# Altium schematic symbol library Schlib.SchLib: 57 symbols (part 1 of 2)
Pins are listed as number, name and electrical type; pins without a type are passive.

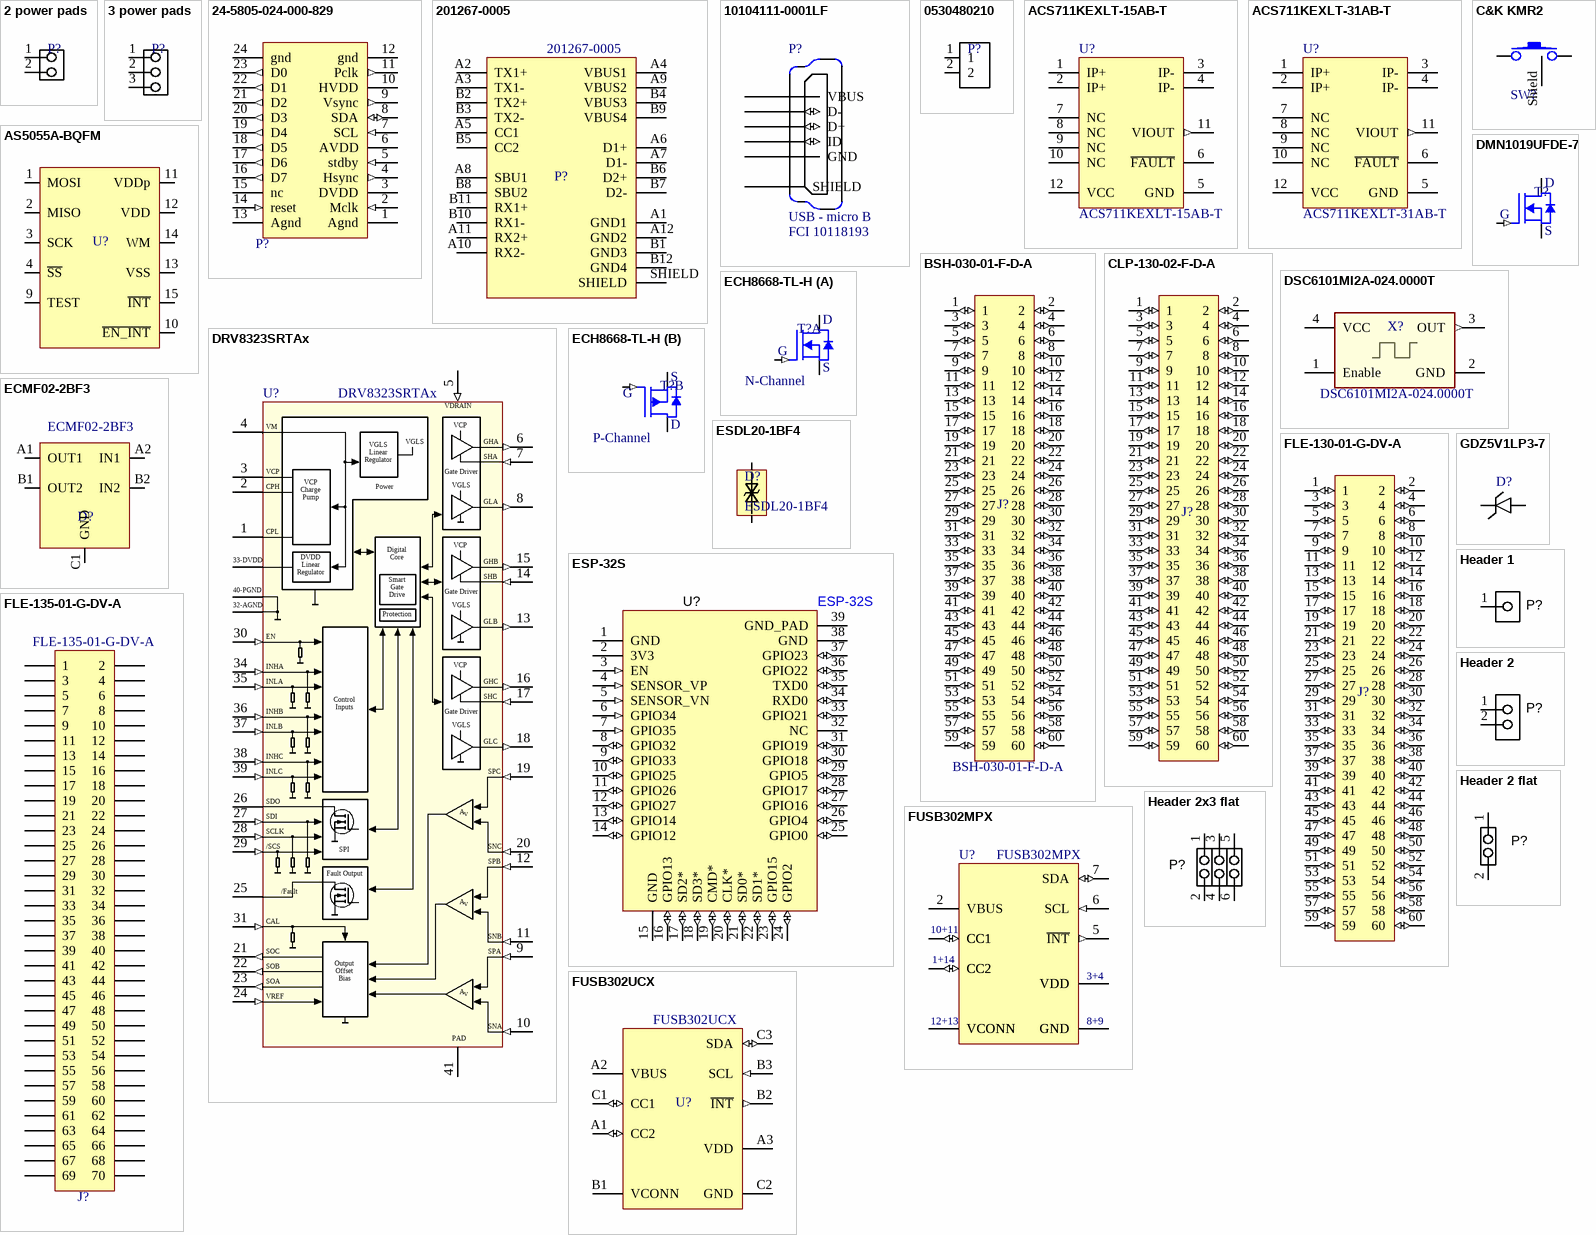
[diagram p0: symbols 2 power pads to Header 2x3 flat]

## 2 power pads
designator P?  (value not drawn)
2-Pin; Manufacturer: Generic Components; Class I: Connector; Revision: July-2002: Re-released for DXP Platform.; Publisher: Altium Limited
footprint PowerPads 2 pins
pins: 1, 2

## 3 power pads
designator P?  (value not drawn)
3-Pin; Manufacturer: Generic Components; Class I: Connector; Revision: July-2002: Re-released for DXP Platform.; Publisher: Altium Limited
footprint PowerPads 3 pins
pins: 1, 2, 3

## 24-5805-024-000-829
designator P?  (value not drawn)
RCPT 24 pins camera 24-5805-024-000-829; value: 24-5805-024-000-829
footprint Connector 24-5805-024-000-829
pins: 1 Agnd (power), 2 Mclk (in), 3 DVDD (power), 4 Hsync (out), 5 stdby (in), 6 AVDD (power), 7 SCL (in), 8 SDA (io), 9 Vsync (out), 10 HVDD (power), 11 Pclk (out), 12 gnd (power), 13 Agnd (power), 14 reset (in), 15 nc, 16 D7 (out), 17 D6 (out), 18 D5 (out), 19 D4 (out), 20 D3 (out), 21 D2 (out), 22 D1 (out), 23 D0 (out), 24 gnd (power)

## 201267-0005
designator P?  Manufacturer Part Number: 201267-0005  (hidden comment: *)
USB Shielded I/O Receptacle; Type C; Right Angle; Surface Mount; Gold over Nickel; Manufacturer: Molex; Supplier 1: Digi-Key; Stock 1: 7138; Pricing 1: 1=2.77, 10=2.531, 25=2.3876, 50=2.292, 100=2.1965, 250=2.00552, 500=1.86228 (USD); Supplier Part Number 1: WM17992CT-ND
footprint MOLEX_2012670005
pins: A1 GND1, A2 TX1+, A3 TX1-, A4 VBUS1, A5 CC1, A6 D1+, A7 D1-, A8 SBU1, A9 VBUS2, A10 RX2-, A11 RX2+, A12 GND2, B1 GND3, B2 TX2+, B3 TX2-, B4 VBUS3, B5 CC2, B6 D2+, B7 D2-, B8 SBU2, B9 VBUS4, B10 RX1-, B11 RX1+, B12 GND4, SHIELD

## 10104111-0001LF
designator P?, comment Connector Type: USB - micro B  (hidden comment: FCI 10118193)
USB MICRO TYPE B horizontal; Manufacturer: Amphenol FCI; Number of Contacts: 5; Gender: Receptacle; Specifications: USB 2.0; Number of Ports: 1; Current Rating: 1.8A per Contact; Voltage - Rated: 100VAC; Mating Cycles: 10000; Shielding: Shielded; Material Flammability Rating: UL94 V-0; Supplier 1: Digi-Key; RoHS: RoHS Compliant; Category: Connectors, Interconnects; Stock 1: 26909; Pricing 1: 1=0.79, 10=0.744, 25=0.67, 50=0.5956, 100=0.5708, 250=0.52112, 500=0.49632 (USD); Packaging: Cut Tape (CT); Part Status: Active; Mounting Type: Surface Mount, Right Angle; Mounting Feature: Horizontal; Termination: Solder; Features: Solder Retention; Ingress Protection: -; Operating Temperature: -30°C ~ 80°C; Contact Finish: Gold; Shell/Shielding Material: Steel, Stainless; Insulation Color: Gray; ComponentLink1URL: http://portal.fciconnect.com/Comergent//fci/drawing/10104111.pdf; ComponentLink1Description: http://portal.fciconnect.com/Comergent//fci/drawing/10104111.pdf; Supplier Part Number 1: 609-4053-1-ND; value: FCI 10118193; Manufacturer Part Number: FCI 10118193
footprint Receptacle microAB-10104111-0001LF
footprint Receptacle microB_smd/th (Footprint not found)
pins: 1 VBUS (power), 2 D- (io), 3 D+ (io), 4 ID (io), 5 GND (power), SHIELD (power)

## 0530480210
designator P?  (value not drawn)
CONN HEADER 2POS 1.25MM R/A TIN; Manufacturer: Molex, LLC; Manufacturer Part Number: 0530480210; Pitch - Mating: 0.049" (1.25mm); Number of Positions: 2; Number of Positions Loaded: All; Style: Board to Cable/Wire; Shrouding: Shrouded - 4 Wall; Contact Length - Post: 0.091" (2.30mm); Material Flammability Rating: UL94 V-0; Supplier 1: Digi-Key; RoHS: RoHS Compliant; Category: Connectors, Interconnects; Stock 1: 15040; Pricing 1: 1=0.39, 10=0.369, 100=0.258, 500=0.22114, 1000=0.18428, 5000=0.15795, 10000=0.14742 (USD); Packaging: Tray; Part Status: Active; Connector Type: Header; Contact Type: Male Blade; Number of Rows: 1; Row Spacing - Mating: -; Mounting Type: Through Hole, Right Angle; Termination: Solder; Fastening Type: Detent Lock; Contact Length - Mating: -; Overall Contact Length: -; Insulation Height: 0.138" (3.50mm); Contact Shape: Rectangular; Contact Finish - Mating: Tin; Contact Finish Thickness - Mating: -; Contact Finish - Post: Tin; Contact Material: Phosphor Bronze; Insulation Material: Polyamide (PA), Nylon; Features: -; Operating Temperature: -; Ingress Protection: -; Insulation Color: Natural; Current Rating: -; Voltage Rating: -; Mated Stacking Heights: -; Contact Finish Thickness - Post: -; Applications: Automotive, General Purpose, Industrial, Medical; ComponentLink1URL: https://www.molex.com/pdm_docs/sd/530480210_sd.pdf; ComponentLink1Description: https://www.molex.com/pdm_docs/sd/530480210_sd.pdf; Supplier Part Number 1: WM1742-ND
footprint 53048-0210
pins: 1 (power), 2 (power)

## ACS711KEXLT-15AB-T
designator U?
Hall Effect Linear Current Sensor with Overcurrent Fault Output for <100 V Isolation Applications, 3 to 5.5 V, -15.5 to 15.5 A IP, -40 to 125 degC, 12-Pin QFN (EX), RoHS, Tape and Reel; VCC Max: 5.5 V; IP Max: 15.5 A; VCC Min: 3 V; IP Min: -15.5 A; -3dB Bandwidth: 0.1 MHz; PackageDescription: 12-Pin Quad Flat No-Lead, Body 3 x 3 mm, Height 0.8 mm; ComponentLink1URL: http://www.allegromicro.com/; Packing: Tape and Reel; ComponentLink2URL: http://www.allegromicro.com/~/media/Files/Datasheets/ACS711-Datasheet.ashx?la=en; DatasheetVersion: Rev. 3; PartNumber: ACS711KEXLT-15AB-T; ComponentLink2Description: Datasheet; ComponentLink3URL: http://www.allegromicro.com/~/media/Files/Datasheets/ACS711-Datasheet.ashx?la=en; RoHS: TRUE; ComponentLink1Description: Manufacturer URL; ComponentLink3Description: Package Specification; Temperature Max: 125 degC; Mounting Technology: Surface Mount; Temperature Min: -40 degC
footprint 12-PowerWFQFN
pins: 1 IP+ (power) "Terminals for current being sensed; fused internally", 2 IP+ (power) "Terminals for current being sensed; fused internally", 3 IP- (power) "Terminals for current being sensed; fused internally", 4 IP- (power) "Terminals for current being sensed; fused internally", 5 GND (power) "Signal ground terminal", 6 ~{FAULT} (oc) "Overcurrent fault; active low", 7 NC "No connection; connect to GND for optimal ESD performance.", 8 NC "No connection; connect to GND for optimal ESD performance.", 9 NC "No connection; connect to GND for optimal ESD performance.", 10 NC "No connection; connect to GND for optimal ESD performance.", 11 VIOUT (out) "Analog output signal", 12 VCC (power) "Device power supply terminal"

## ACS711KEXLT-31AB-T
designator U?
Hall Effect Linear Current Sensor with Overcurrent Fault Output for <100 V Isolation Applications, 3 to 5.5 V, -31 to 31 A IP, -40 to 125 degC, 12-Pin QFN (EX), RoHS, Tape and Reel; VCC Max: 5.5 V; IP Max: 31A; VCC Min: 3 V; IP Min: -31 A; -3dB Bandwidth: 0.1 MHz; PackageDescription: 12-Pin Quad Flat No-Lead, Body 3 x 3 mm, Height 0.8 mm; ComponentLink1URL: http://www.allegromicro.com/; Packing: Tape and Reel; ComponentLink2URL: http://www.allegromicro.com/~/media/Files/Datasheets/ACS711-Datasheet.ashx?la=en; DatasheetVersion: Rev. 4; PartNumber: ACS711KEXLT-31AB-T; ComponentLink2Description: Datasheet; ComponentLink3URL: http://www.allegromicro.com/~/media/Files/Datasheets/ACS711-Datasheet.ashx?la=en; RoHS: TRUE; ComponentLink1Description: Manufacturer URL; ComponentLink3Description: Package Specification; Temperature Max: 125 degC; Mounting Technology: Surface Mount; Temperature Min: -40 degC
footprint 12-PowerWFQFN
pins: 1 IP+ (power) "Terminals for current being sensed; fused internally", 2 IP+ (power) "Terminals for current being sensed; fused internally", 3 IP- (power) "Terminals for current being sensed; fused internally", 4 IP- (power) "Terminals for current being sensed; fused internally", 5 GND (power) "Signal ground terminal", 6 ~{FAULT} (oc) "Overcurrent fault; active low", 7 NC "No connection; connect to GND for optimal ESD performance.", 8 NC "No connection; connect to GND for optimal ESD performance.", 9 NC "No connection; connect to GND for optimal ESD performance.", 10 NC "No connection; connect to GND for optimal ESD performance.", 11 VIOUT (out) "Analog output signal", 12 VCC (power) "Device power supply terminal"

## AS5055A-BQFM
designator U?  (value not drawn)
IC ENCODER ROTARY 12BIT 16QFN; Manufacturer: ams; Statut de la pièce: Actif; Pour la mesure: Angle; Technologie: Effet Hall; Angle de rotation - Électrique, mécanique: 0° ~ 360°, Modes continue; Sortie: SPI; Type d’actionneur: Aimant externe, non inclus; Linéarité: ±1,41°; Alimentation en tension: 3 V ~ 3,6 V; Type de montage: Montage en surface; Style de terminaison: Languette CMS (SMT); Température d’utilisation: -40°C ~ 85°C; Supplier 1: Digi-Key; RoHS: RoHS Compliant; Category: Capteurs, transducteurs; Stock 1: 6192; Pricing 1: 1=6.54, 10=5.885, 25=5.362, 100=4.8388, 250=4.44644 (EUR); Plage linéaire: -; Signal de sortie: -; Résistance (Ohms): -; Tolérance de résistance: -; ComponentLink1URL: http://ams.com/eng/content/download/552323/1541717/300455; ComponentLink1Description: http://ams.com/eng/content/download/552323/1541717/300455; Supplier 2: RSComponents
footprint QFN4X4-16 - EPAD unconnected (Quad Flat No Lead, Plastic; 16 Terminals; Body 4 x 4 mm; Pitch 0.65 mm)
pins: 1 MOSI, 2 MISO, 3 SCK, 4 ~{SS}, 9 TEST, 10 ~{EN_INT}, 11 VDDp, 12 VDD, 13 VSS, 14 WM, 15 ~{INT}

## BSH-030-01-F-D-A
designator J?  Manufacturer Part Number: BSH-030-01-F-D-A  (hidden comment: *)
CONN RCPT 60POS 0.5MM SMD; Manufacturer: Samtec Inc.; Connector Type: Socket, Center Strip Contacts; Number of Positions: 60; Pitch: 0.020" (0.50mm); Mated Stacking Heights: 5mm; Supplier 1: Digi-Key; RoHS: RoHS Compliant; Category: Connectors, Interconnects; Stock 1: 637; Pricing 1: 1=5.89, 10=5.376, 25=5.12, 50=4.608, 100=4.096, 250=3.712, 500=3.456, 1000=3.264, 2500=3.136 (USD); Packaging: Tube; Part Status: Active; Mounting Type: Surface Mount; Features: Board Guide; Contact Finish: Gold; Contact Finish Thickness: 3.00µin (0.076µm); Height Above Board: 0.128" (3.25mm); ComponentLink1URL: http://suddendocs.samtec.com/prints/bsh-xxx-01-x-d-xx-xx-mkt.pdf; ComponentLink1Description: http://suddendocs.samtec.com/prints/bsh-xxx-01-x-d-xx-xx-mkt.pdf; Supplier Part Number 1: SAM8749-ND
footprint BSH-030-F-D-A
pins: 1 (io), 2 (io), 3 (io), 4 (io), 5 (io), 6 (io), 7 (io), 8 (io), 9 (io), 10 (io), 11 (io), 12 (io), 13 (io), 14 (io), 15 (io), 16 (io), 17 (io), 18 (io), 19 (io), 20 (io), 21 (io), 22 (io), 23 (io), 24 (io), 25 (io), 26 (io), 27 (io), 28 (io), 29 (io), 30 (io), 31 (io), 32 (io), 33 (io), 34 (io), 35 (io), 36 (io), 37 (io), 38 (io), 39 (io), 40 (io), 41 (io), 42 (io), 43 (io), 44 (io), 45 (io), 46 (io), 47 (io), 48 (io), 49 (io), 50 (io), 51 (io), 52 (io), 53 (io), 54 (io), 55 (io), 56 (io), 57 (io), 58 (io), 59 (io), 60 (io)

## C&K KMR2
designator SW?, comment button  (value not drawn)
KMR221GLFS; Manufacturer: Tyco; Manufacturer Nr: 7-188275-6; Preference: 1; Currentie: CHF; Quant_1: 10; Quant_2: 900; Circuit: SPST-NO; Switch Function: Off-Mom; Contact Rating @ Voltage: 0.05A @ 32VDC; Actuator Type: Standard; Actuator Height off PCB, from Pins: 1.90mm; Actuator Orientation: Top Actuated; Outline: 4.60mm x 2.80mm; Illumination: Non-Illuminated; Operating Force: 200gf; Switch Travel: 0.25mm; Mechanical Life: 200,000 Cycles; Footprint Acort: ToDefine; ComponentLink1Description: Datasheet; ComponentLink1URL: http://ecommas.tycoelectronics.com/commerce/DocumentDelivery/DDEController?Action=showdoc&DocId=Customer+Drawing%7F188275%7FR%7Fpdf%7FEnglish%7FC_188275_R.pdf; Supplier: Farnell; Supplier Nr: 1056234; ComponentLink2Description: Farnell link; ComponentLink2URL: http://fr.farnell.com/jsp/displayProduct.jsp?sku=1056234; ROHS: True; Type: SMD; Orientation: Vertical; DateLastUpdate: 2007-12-04 / 09:15:57; Price_1: 1,1; Price_2: 0,924; Supplier 1: Digi-Key; Manufacturer Part Number: KMR221GLFS; Category: Switches; Stock 1: 20549; Pricing 1: 1=0.51, 10=0.493, 25=0.484, 50=0.4656, 100=0.4017, 250=0.3652, 500=0.34694, 1000=0.2739 (USD); Packaging: Cut Tape (CT); Mounting Type: Surface Mount; Termination Style: Gull Wing; Illumination Voltage (Nominal): -; Illumination Type, Color: -; Ingress Protection: -; Features: Grounding Pin; Actuator Material: -; Operating Temperature: -40°C ~ 85°C; ComponentLink3URL: http://www.ck-components.com/index.php?module=media&action=Display&cmpref=14414&lang=en&width=&height=&format=&alt=; ComponentLink3Description: http://www.ck-components.com/index.php?module=media&action=Display&cmpref=14414&lang=en&width=&height=&format=&alt=; Supplier Part Number 1: 401-1427-1-ND
footprint C&K_KMR2 (KMR2 Series  Micro-Miniature Tact Switch)
pins: 1, 2, Shield

## CLP-130-02-F-D-A
designator J?  (value not drawn)
.050" X .050; Manufacturer: Samtec Inc.; Manufacturer Part Number: CLP-130-02-F-D-A; Connector Type: Receptacle; Style: Board to Board; Number of Positions: 60; Number of Positions Loaded: All; Pitch - Mating: 0.050" (1.27mm); Material Flammability Rating: UL94 V-0; Current Rating: 3.3A per Contact; Voltage Rating: 240VAC, 330VDC; Supplier 1: Digi-Key; RoHS: RoHS Compliant; Category: Connectors, Interconnects; Stock 1: 0; Pricing 1: 1=7.54 (USD); Packaging: Tube; Part Status: Active; Contact Type: Female Socket; Row Spacing - Mating: 0.050" (1.27mm); Mounting Type: Surface Mount; Termination: Solder; Fastening Type: Push-Pull; Contact Finish - Mating: Gold; Contact Finish Thickness - Mating: 3.00µin (0.076µm); Insulation Color: Black; Insulation Height: 0.084" (2.14mm); Contact Length - Post: -; Operating Temperature: -55°C ~ 125°C; Contact Finish - Post: Tin; Mated Stacking Heights: -; Ingress Protection: -; Features: Board Guide; Applications: -; Insulation Material: Liquid Crystal Polymer (LCP); Contact Shape: Square; Contact Material: Phosphor Bronze; Contact Finish Thickness - Post: -; ComponentLink1URL: http://suddendocs.samtec.com/prints/clp-1xx-xx-xxx-d-xx-mkt.pdf; ComponentLink1Description: http://suddendocs.samtec.com/prints/clp-1xx-xx-xxx-d-xx-mkt.pdf; Supplier Part Number 1: CLP-130-02-F-D-A-ND
footprint CLP-130-02-F-D-A
pins: 1 (io), 2 (io), 3 (io), 4 (io), 5 (io), 6 (io), 7 (io), 8 (io), 9 (io), 10 (io), 11 (io), 12 (io), 13 (io), 14 (io), 15 (io), 16 (io), 17 (io), 18 (io), 19 (io), 20 (io), 21 (io), 22 (io), 23 (io), 24 (io), 25 (io), 26 (io), 27 (io), 28 (io), 29 (io), 30 (io), 31 (io), 32 (io), 33 (io), 34 (io), 35 (io), 36 (io), 37 (io), 38 (io), 39 (io), 40 (io), 41 (io), 42 (io), 43 (io), 44 (io), 45 (io), 46 (io), 47 (io), 48 (io), 49 (io), 50 (io), 51 (io), 52 (io), 53 (io), 54 (io), 55 (io), 56 (io), 57 (io), 58 (io), 59 (io), 60 (io)

## DMN1019UFDE-7
designator T?  (value not drawn)
MOSFET N CH 12V 11A U-DFN2020-6E; Manufacturer: Diodes Incorporated; Manufacturer Part Number: DMN1019UFDE-7; FET Type: N-Channel; Current - Continuous Drain (Id) @ 25°C: 11A (Ta); Drive Voltage (Max Rds On,  Min Rds On): 1.2V, 4.5V; Rds On (Max) @ Id, Vgs: 10 mOhm @ 9.7A, 4.5V; Vgs(th) (Max) @ Id: 800mV @ 250µA; Vgs (Max): ±8V; Power Dissipation (Max): 690mW (Ta); Supplier 1: Digi-Key; RoHS: RoHS Compliant; Category: Discrete Semiconductor Products; Stock 1: 492; Pricing 1: 1=0.55, 10=0.464, 100=0.3482, 500=0.25538, 1000=0.19734 (USD); Packaging: Cut Tape (CT); Part Status: Active; Technology: MOSFET (Metal Oxide); FET Feature: -; Operating Temperature: -55°C ~ 150°C (TJ); Mounting Type: Surface Mount; Supplier Device Package: U-DFN2020-6 (Type E); Package / Case: 6-UDFN Exposed Pad; ComponentLink1URL: https://www.diodes.com/assets/Datasheets/DMN1019UFDE.pdf; ComponentLink1Description: https://www.diodes.com/assets/Datasheets/DMN1019UFDE.pdf; Supplier Part Number 1: DMN1019UFDE-7DICT-ND
footprint U-DFN2020-6
pins: 1 D, 2 G (in), 3 S

## DRV8323SRTAx
designator U?
6 to 60-V Three-Phase Smart Gate Driver, 3 current sense amplifiers, SPI interface, 6 x 6 × 0.75 mm QFN; Manufacturer: Texas Instruments; PartNumber: DRV8323HRTAR; RefDes: RefDes; Type: DEV; Value: Value
footprint RTA0040B
footprint RTA0040B_NV
pins: 1 CPL, 2 CPH, 3 VCP (power), 4 VM (power), 5 VDRAIN (in), 6 GHA (out), 7 SHA (in), 8 GLA (out), 9 SPA (in), 10 SNA (in), 11 SNB (in), 12 SPB (in), 13 GLB (out), 14 SHB (in), 15 GHB (out), 16 GHC (out), 17 SHC (in), 18 GLC (out), 19 SPC (in), 20 SNC (in), 21 SOC (out), 22 SOB (out), 23 SOA (out), 24 VREF (in), 25 FAULT_N (oc), 26 MODE_SDO, 27 IDRIVE_SDI (in), 28 VDS_SCLK (in), 29 GAIN_SCS_N (in), 30 ENABLE (in), 31 CAL (in), 32 AGND (power), 33 DVDD (power), 34 INHA (in), 35 INLA (in), 36 INHB (in), 37 INLB (in), 38 INHC (in), 39 INLC (in), 40 PGND (power), 41 PAD (power)
text: VGLS; / VGLS / Linear / Regulator; Gate Driver; Power; / VCP / Charge / Pump; 33-DVDD; DVDD / Linear / Regulator; 40-PGND; Smart / Gate / Drive; 32-AGND; Protection; / Digital / Core; EN; / Control / Inputs; SDO; A; SDI; V; SCLK; /SCS; / SPI; /Fault; Fault Output; / Output / Offset / Bias

## DSC6101MI2A-024.0000T
designator X?  Manufacturer Part Number: DSC6101MI2A-024.0000T  (hidden comment: *)
24MHz LVCMOS MEMS (Silicon) Oscillator  1.71 V ~ 3.63 V 3mA Enable/Disable; Manufacturer: Microchip; Frequency Stability: 25ppm; Supplier 1: Digi-Key; Stock 1: 47; Pricing 1: 1=1.06, 50=0.9464 (USD); Frequency: 24MHz; Max Supply Current: 3mA; Ratings: AEC-Q100; Supplier Part Number 1: DSC6101MI2A-024.0000TCT-ND
footprint Oscillator 2x1.6mm VLGA
pins: 1 Enable, 2 GND (power), 3 OUT (out), 4 VCC (power)

## ECH8668-TL-H
designator T?  (value not drawn)
MOSFET N/P-CH 20V 7.5A/5A ECH8; Manufacturer: ON Semiconductor; Manufacturer Part Number: ECH8668-TL-H; FET Type: N and P-Channel; FET Feature: Logic Level Gate; Current - Continuous Drain (Id) @ 25°C: 7.5A, 5A; Rds On (Max) @ Id, Vgs: 17 mOhm @ 4A, 4.5V; Gate Charge (Qg) (Max) @ Vgs: 10.8nC @ 4.5V; Input Capacitance (Ciss) (Max) @ Vds: 1060pF @ 10V; Power - Max: 1.5W; Supplier 1: Digi-Key; RoHS: RoHS Compliant; Category: Discrete Semiconductor Products; Stock 1: 3111; Pricing 1: 1=0.93, 10=0.811, 100=0.6259, 500=0.46362, 1000=0.37089 (USD); Packaging: Cut Tape (CT); Part Status: Active; Drain to Source Voltage (Vdss): 20V; Vgs(th) (Max) @ Id: -; Operating Temperature: 150°C (TJ); Mounting Type: Surface Mount; Package / Case: 8-SMD, Flat Lead; Supplier Device Package: 8-ECH; ComponentLink1URL: http://www.onsemi.com/pub/Collateral/ECH8668-D.PDF; ComponentLink1Description: http://www.onsemi.com/pub/Collateral/ECH8668-D.PDF; Supplier Part Number 1: ECH8668-TL-HOSCT-ND
footprint 8-SMD Flat lead
part A pins: 1 S, 2 G (in), 6 D
part B pins: 3 S, 4 G (in), 5 D
part A text: N-Channel
part B text: P-Channel

## ECMF02-2BF3
designator D?  Manufacturer Part Number: ECMF02-2BF3  (hidden comment: *)
IC ESD FILTER COM MODE 5FLIPCHIP; Manufacturer: STMicroelectronics; Number of Lines: 2; Frequency: 2.2GHz; DC Resistance (DCR): 3R; Supplier 1: Digi-Key; Stock 1: 11040; Pricing 1: 1=0.65, 10=0.56, 100=0.4182, 500=0.32858, 1000=0.2539 (USD); Mount: Surface Mount; Case/Package: SMD/SMT; Min Operating Temperature: -40°C; Max Operating Temperature: 85°C; Package Quantity: 5000; Packaging: Tape and Reel; Termination: Flat; Radiation Hardening: No; Lead Free: Lead Free; ComponentLink1URL: http://www.st.com/st-web-ui/static/active/en/resource/technical/document/data_brief/DM00047758.pdf; ComponentLink1Description: http://www.st.com/st-web-ui/static/active/en/resource/technical/document/data_brief/DM00047758.pdf; ComponentLink2URL: http://www.st.com/content/ccc/resource/technical/document/data_brief/b5/64/4d/9e/10/b2/49/ce/DM00047758.pdf/files/DM00047758.pdf/jcr:content/translations/en.DM00047758.pdf; ComponentLink2Description: http://www.st.com/content/ccc/resource/technical/document/data_brief/b5/64/4d/9e/10/b2/49/ce/DM00047758.pdf/files/DM00047758.pdf/jcr:content/translations/en.DM00047758.pdf; Supplier Part Number 1: 497-12953-1-ND
footprint ECMF02-2BF3 (USB DP-DM line protection)
pins: A1 OUT1, A2 IN1, B1 OUT2, B2 IN2, C1 GND

## ESDL20-1BF4
designator D?
footprint 0201 USB protection diodes (USB PROTECTION ST)
pins: 1, 2

## ESP-32S
designator U?
Wi-Fi BT BLE MCU Module; MANUFACTURER: TEXAS INSTRUMENTS; POPULATE: Y; CONSIGNED: Y; VALUE: ESP-32S
footprint ESP-32S
pins: 1 GND (power), 2 3V3 (power), 3 EN (in), 4 SENSOR_VP (in), 5 SENSOR_VN (in), 6 GPIO34 (in), 7 GPIO35 (in), 8 GPIO32 (io), 9 GPIO33 (io), 10 GPIO25 (io), 11 GPIO26 (io), 12 GPIO27 (io), 13 GPIO14 (io), 14 GPIO12 (io), 15 GND (power), 16 GPIO13 (io), 17 SD2* (io), 18 SD3* (io), 19 CMD* (io), 20 CLK* (io), 21 SD0* (io), 22 SD1* (io), 23 GPIO15 (io), 24 GPIO2 (io), 25 GPIO0 (io), 26 GPIO4 (io), 27 GPIO16 (io), 28 GPIO17 (io), 29 GPIO5 (io), 30 GPIO18 (io), 31 GPIO19 (io), 32 NC, 33 GPIO21 (io), 34 RXD0 (io), 35 TXD0 (io), 36 GPIO22 (io), 37 GPIO23 (io), 38 GND (power), 39 GND_PAD (power)

## FLE-130-01-G-DV-A
designator J?  (value not drawn)
.050 MICRO STRIPS; Manufacturer: Samtec Inc.; Manufacturer Part Number: FLE-130-01-G-DV-A; Connector Type: Receptacle; Style: Board to Board or Cable; Number of Positions: 60; Number of Positions Loaded: All; Pitch - Mating: 0.050" (1.27mm); Current Rating: 2A per Contact; Supplier 1: Digi-Key; RoHS: RoHS Compliant; Category: Connectors, Interconnects; Stock 1: 179; Pricing 1: 1=7.89, 10=7.203, 100=5.488, 500=4.6305, 1000=4.37325 (USD); Packaging: Tube; Part Status: Active; Contact Type: Female Socket; Row Spacing - Mating: 0.050" (1.27mm); Mounting Type: Surface Mount; Termination: Solder; Fastening Type: Push-Pull; Contact Finish - Mating: Gold; Contact Finish Thickness - Mating: 10.0µin (0.25µm); Insulation Color: Black; Insulation Height: 0.172" (4.37mm); Contact Length - Post: -; Operating Temperature: -55°C ~ 125°C; Material Flammability Rating: -; Contact Finish - Post: Gold; Mated Stacking Heights: -; Ingress Protection: -; Features: Board Guide; Voltage Rating: -; Applications: -; Insulation Material: Liquid Crystal Polymer (LCP); Contact Shape: Square; Contact Material: Phosphor Bronze; Contact Finish Thickness - Post: 3.00µin (0.076µm); ComponentLink1URL: http://suddendocs.samtec.com/prints/fle-1xx-xx-xx-dv-x-mkt.pdf; ComponentLink1Description: http://suddendocs.samtec.com/prints/fle-1xx-xx-xx-dv-x-mkt.pdf; Supplier Part Number 1: SAM10493-ND
footprint FLE-130-01-G-DV-A
pins: 1 (io), 2 (io), 3 (io), 4 (io), 5 (io), 6 (io), 7 (io), 8 (io), 9 (io), 10 (io), 11 (io), 12 (io), 13 (io), 14 (io), 15 (io), 16 (io), 17 (io), 18 (io), 19 (io), 20 (io), 21 (io), 22 (io), 23 (io), 24 (io), 25 (io), 26 (io), 27 (io), 28 (io), 29 (io), 30 (io), 31 (io), 32 (io), 33 (io), 34 (io), 35 (io), 36 (io), 37 (io), 38 (io), 39 (io), 40 (io), 41 (io), 42 (io), 43 (io), 44 (io), 45 (io), 46 (io), 47 (io), 48 (io), 49 (io), 50 (io), 51 (io), 52 (io), 53 (io), 54 (io), 55 (io), 56 (io), 57 (io), 58 (io), 59 (io), 60 (io)

## FLE-135-01-G-DV-A
designator J?
.050 MICRO STRIPS; Manufacturer: Samtec Inc.; Manufacturer Part Number: FLE-130-01-G-DV-A; Connector Type: Receptacle; Style: Board to Board or Cable; Number of Positions: 60; Number of Positions Loaded: All; Pitch - Mating: 0.050" (1.27mm); Current Rating: 2A per Contact; Supplier 1: Digi-Key; RoHS: RoHS Compliant; Category: Connectors, Interconnects; Stock 1: 179; Pricing 1: 1=7.89, 10=7.203, 100=5.488, 500=4.6305, 1000=4.37325 (USD); Packaging: Tube; Part Status: Active; Contact Type: Female Socket; Row Spacing - Mating: 0.050" (1.27mm); Mounting Type: Surface Mount; Termination: Solder; Fastening Type: Push-Pull; Contact Finish - Mating: Gold; Contact Finish Thickness - Mating: 10.0µin (0.25µm); Insulation Color: Black; Insulation Height: 0.172" (4.37mm); Contact Length - Post: -; Operating Temperature: -55°C ~ 125°C; Material Flammability Rating: -; Contact Finish - Post: Gold; Mated Stacking Heights: -; Ingress Protection: -; Features: Board Guide; Voltage Rating: -; Applications: -; Insulation Material: Liquid Crystal Polymer (LCP); Contact Shape: Square; Contact Material: Phosphor Bronze; Contact Finish Thickness - Post: 3.00µin (0.076µm); ComponentLink1URL: http://suddendocs.samtec.com/prints/fle-1xx-xx-xx-dv-x-mkt.pdf; ComponentLink1Description: http://suddendocs.samtec.com/prints/fle-1xx-xx-xx-dv-x-mkt.pdf; Supplier Part Number 1: SAM10493-ND
footprint FLE-135-01-G-DV-A
pins: 1, 2, 3, 4, 5, 6, 7, 8, 9, 10, 11, 12, 13, 14, 15, 16, 17, 18, 19, 20, 21, 22, 23, 24, 25, 26, 27, 28, 29, 30, 31, 32, 33, 34, 35, 36, 37, 38, 39, 40, 41, 42, 43, 44, 45, 46, 47, 48, 49, 50, 51, 52, 53, 54, 55, 56, 57, 58, 59, 60, 61, 62, 63, 64, 65, 66, 67, 68, 69, 70

## FUSB302MPX
designator U?  Manufacturer Part Number: FUSB302MPX  (hidden comment: *)
USB Type-C Port Controller 9-Pin MLP T/R; Manufacturer: ON Semiconductor / Fairchild; Operating Supply Current: 25uA; Supplier 1: Digi-Key; Stock 1: 0; Mount: Surface Mount; Number of Pins: 14; Contact Plating: Copper,Silver,Tin; Min Operating Temperature: -40°C; Max Operating Temperature: 85°C; Packaging: Tape and Reel; Interface: USB; Lead Free: Lead Free; Supplier Part Number 1: FUSB302MPXTR-ND
footprint PQFN50P250X250X60_HS-15L (PQFN, 14-Leads, Body 2.50x2.50mm, Pitch 0.50mm, Thermal Pad 1.45x1.45mm, IPC High Density)
pins: 1 CC2 (io), 2 VBUS (power), 3 VDD (power), 4 VDD (power), 5 ~{INT} (out), 6 SCL (in), 7 SDA (io), 8 GND (power), 9 GND (power), 10 CC1 (io), 11 CC1 (io), 12 VCONN (power), 13 VCONN (power), 14 CC2 (io)
text: 10+11; 1+14; 3+4; 12+13; 8+9

## FUSB302UCX
designator U?  Manufacturer Part Number: FUSB302UCX  (hidden comment: *)
USB Type-C Port Controller 9-Pin WLCSP T/R; Manufacturer: ON Semiconductor / Fairchild; Operating Supply Current: 25uA; Supplier 1: Digi-Key; Stock 1: 0; Mount: Surface Mount; Number of Pins: 9; Weight: 0.0373333g; Contact Plating: Copper,Silver,Tin; Min Operating Temperature: -40°C; Max Operating Temperature: 85°C; Packaging: Tape and Reel; Interface: USB; Lead Free: Lead Free; Supplier Part Number 1: FUSB302UCXCT-ND
footprint WLCSP9
pins: A1 CC2 (io), A2 VBUS (power), A3 VDD (power), B1 VCONN (power), B2 ~{INT} (out), B3 SCL (in), C1 CC1 (io), C2 GND (power), C3 SDA (io)

## GDZ5V1LP3-7
designator D?  (value not drawn)
DIODE ZENER 5.1V 250MW 2DFN; Manufacturer: Diodes; Manufacturer Part Number: GDZ5V1LP3-7; Tolerance: 5%; Max Reverse Leakage Current: 200nA; Element Configuration: Single; Supplier 1: Digi-Key; Stock 1: 50190; Pricing 1: 1=0.37, 10=0.303, 100=0.1607, 500=0.1057, 1000=0.07188 (USD); Mount: Surface Mount; Case/Package: DFN; Number of Pins: 2; Min Operating Temperature: -55°C; Max Operating Temperature: 150°C; Packaging: Tape and Reel; Max Power Dissipation: 250mW; Package Quantity: 10000; Zener Voltage: 5.1V; Zener Current: 200nA; Voltage Tolerance: 5%; Peak Reverse Current: 200nA; Power Rating: 250mW; Length: 0.62mm; Height: 0.3mm; Width: 0.32mm; Radiation Hardening: No; REACH SVHC: No SVHC; ComponentLink1URL: https://www.diodes.com/assets/Datasheets/GDZxVxLP3.pdf; ComponentLink1Description: https://www.diodes.com/assets/Datasheets/GDZxVxLP3.pdf; Supplier Part Number 1: GDZ5V1LP3-7DICT-ND
footprint 0201 diode (for 0201 mcsemi diode)
footprint 0201 diode - Wide (for 0201 mcsemi diode)
pins: 1 C, 2 C

## Header 1
designator P?  (value not drawn)
LatestRevisionDate: 17-Jul-2002; LatestRevisionNote: Re-released for DXP Platform.; Publisher: Altium Limited
footprint HEADER1x1-2.54
pins: 1

## Header 2
designator P?  (value not drawn)
boot 413; LatestRevisionDate: 17-Jul-2002; LatestRevisionNote: Re-released for DXP Platform.; Publisher: Altium Limited
footprint HEADER1x2-2.54
pins: 1, 2

## Header 2 flat
designator P?  (value not drawn)
LatestRevisionDate: 17-Jul-2002; LatestRevisionNote: Re-released for DXP Platform.; Publisher: Altium Limited
footprint HEADER1x2-2.54
pins: 1, 2

## Header 2x3 flat
designator P?  (value not drawn)
LatestRevisionDate: 17-Jul-2002; LatestRevisionNote: Re-released for DXP Platform.; Publisher: Altium Limited
footprint HEADER3x2-2.54
pins: 1, 2, 3, 4, 5, 6

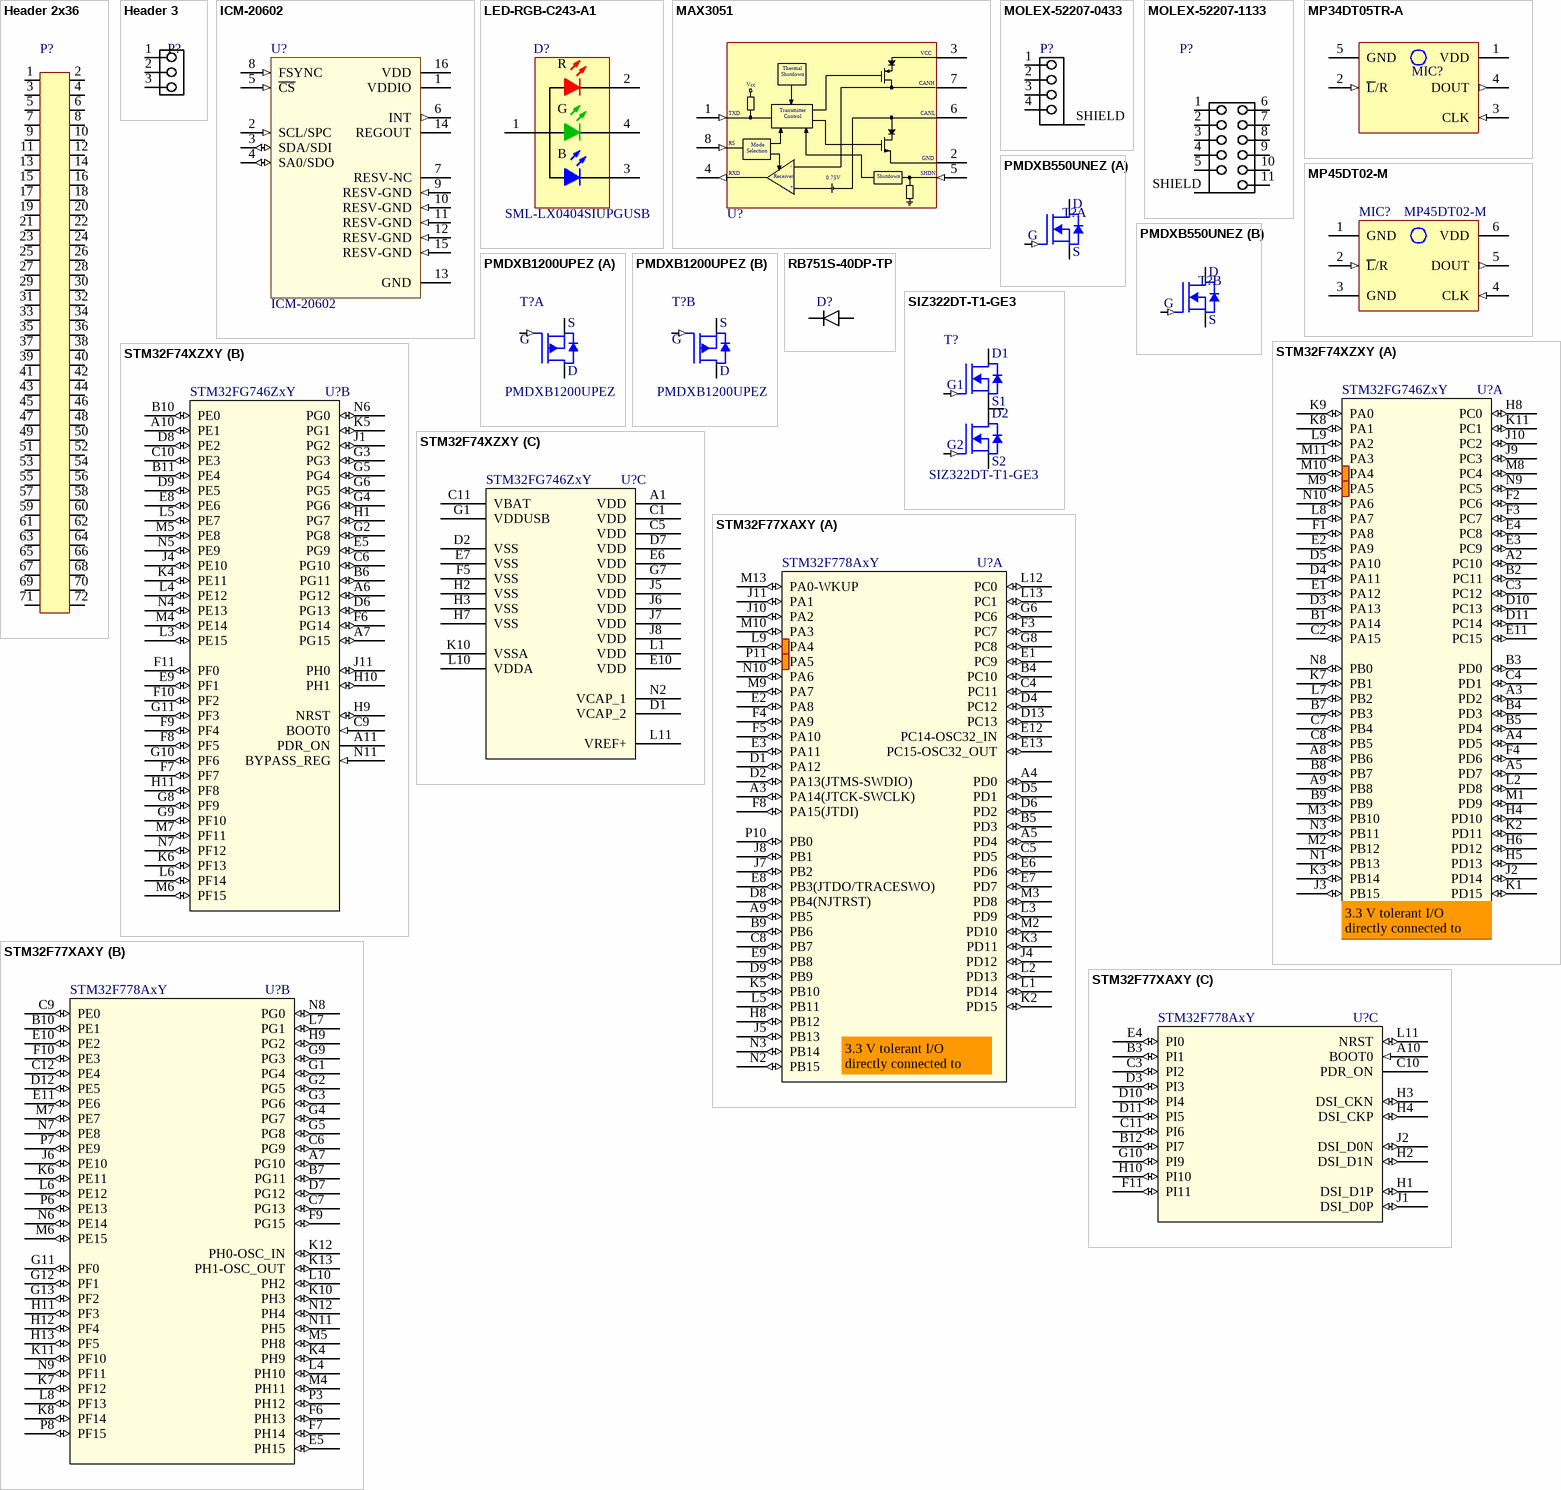
[diagram p1: symbols Header 2x36 to STM32F77XAXY]

## Header 2x36
designator P?  (value not drawn)
footprint HEADER2x36-2.54 (Connector; Header; 50 Positions)
pins: 1, 2, 3, 4, 5, 6, 7, 8, 9, 10, 11, 12, 13, 14, 15, 16, 17, 18, 19, 20, 21, 22, 23, 24, 25, 26, 27, 28, 29, 30, 31, 32, 33, 34, 35, 36, 37, 38, 39, 40, 41, 42, 43, 44, 45, 46, 47, 48, 49, 50, 51 50, 52 51, 53 51, 54 52, 55 52, 56 53, 57 53, 58 54, 59 54, 60 55, 61 55, 62 56, 63 56, 64 57, 65 57, 66 58, 67 58, 68 59, 69 59, 70 60, 71 60, 72 61

## Header 3
designator P?  (value not drawn)
Header, 3-Pin; Manufacturer: Generic Components; Class I: Connector; Revision: July-2002: Re-released for DXP Platform.; Publisher: Altium Limited
footprint HEADER1X3-2.54
pins: 1, 2, 3

## ICM-20602
designator U?
IMU ACCEL/GYRO/TEMP I2C/SPI LGA; Manufacturer: TDK InvenSense; MF: TDK-InvenSense; Sensor Type: Accelerometer, Gyroscope, Temperature, 6 Axis; Output Type: I²C, SPI; Digi-Key_Purchase_URL: https://www.digikey.ch/product-detail/en/tdk-invensense/ICM-20602/1428-1060-1-ND/5872875?utm_source=snapeda&utm_medium=aggregator&utm_campaign=symbol; SnapEDA_Link: https://www.snapeda.com/parts/ICM-20602/TDK-InvenSense/view-part/?ref=snap; Package: PQFN-16 TDK-InvenSense; Digi-Key_Part_Number: 1428-1060-1-ND; Value: *; Supplier 1: Digi-Key; Manufacturer Part Number: ICM-20602; RoHS: RoHS Compliant; Category: Sensors, Transducers; Stock 1: 12892; Pricing 1: 1=5.72, 5=5.05, 10=4.46, 25=3.6184, 50=3.1978, 100=3.1136, 500=2.60866, 1000=2.44035 (USD); Part Status: Active; Operating Temperature: -40°C ~ 85°C (TA); ComponentLink1URL: http://www.invensense.com/wp-content/uploads/2016/10/DS-000176-ICM-20602-v1.0.pdf; ComponentLink1Description: http://www.invensense.com/wp-content/uploads/2016/10/DS-000176-ICM-20602-v1.0.pdf; MP: ICM-20602; Supplier Part Number 1: 1428-1060-1-ND
footprint PQFN50P300X300X80-16N
pins: 1 VDDIO (power) "Digital I/O supply voltage", 2 SCL/SPC (in) "I2C serial clock (SCL); SPI serial clock (SPC)", 3 SDA/SDI (io) "I2C serial data (SDA); SPI serial data input (SDI)", 4 SA0/SDO (io) "I2C slave address LSB (SA0); SPI serial data output (SDO)", 5 ~{CS} (in) "Chip select (0 = SPI mode; 1 = I2C mode)", 6 INT (out) "Interrupt digital output (totem pole or open-drain)", 7 RESV-NC "Reserved. Do not connect", 8 FSYNC (in) "Synchronization digital input (optional). Connect to GND if unused", 9 RESV-GND (in) "Reserved. Connect to GND", 10 RESV-GND (in) "Reserved. Connect to GND", 11 RESV-GND (in) "Reserved. Connect to GND", 12 RESV-GND (in) "Reserved. Connect to GND", 13 GND (power) "Connect to GND", 14 REGOUT "Regulator filter capacitor connection", 15 RESV-GND (in) "Reserved. Connect to GND", 16 VDD (power) "Power Supply"

## LED-RGB-C243-A1
designator D?, comment SML-LX0404SIUPGUSB
QuasarBrite LED RGB (Full color 0404 SMD LED), 3x 2mA; Manufacturer: Lumex; Preference: 1; Currentie: CHF; Size: 0404; Footprint Acort: ToDefine; ComponentLink1URL: http://www.lumex.com/en/products/detail/leds7/surface_mount4/0404_package/; ComponentLink1Description: Manufacturer link; Supplier 1: Mouser; Supplier Part Number 1: 696-LX0404SIUPGUSB; ComponentLink2Description: Supplier link; ComponentLink2URL: http://www.mouser.ch/ProductDetail/Lumex/SML-LX0404SIUPGUSB/?qs=%2fha2pyFaduhVJD5ZRhDg%2ft7CXH9HmwqzW0VFa3tCuDCfVLKu7L8ofw8YssAqq7i9; Manufacturer Nr: SML-LX0404SIUPGUSB; ROHS: True; DateLastUpdate: 2015-06-26 / 09:49:20
footprint LUMEX_SML-LX0404SIUPGUSB
signal-integrity model Guessed Model (IC Model Details Guessed by Setup Helper)
pins: 1 AC, 2 RC, 3 BC, 4 GC
text: R; G; B

## MAX3051
designator U?, comment MAX3051EKA-T  (value not drawn)
+3.3V, 1Mbps, Low-Supply-Current CAN Transceiver; Manufacturer: Maxim; Preference: 1; Currentie: CHF; Size: SOT23-8; Footprint Acort: ToDefine; Manufacturer Nr: MAX3051EKA-T; ROHS: True; DateLastUpdate: 2012-06-17 / 01:26:47; Supplier 1: Digi-Key; Supplier Part Number 1: MAX3051EKA+TCT-ND
footprint SOT65P3-8
pins: 1 TXD (in) "Transmit Data Input. TXD is a CMOS/TTL-compatible input from a CAN controller. TXD has an  internal 75kO pullup resistor.", 2 GND (power) "Ground", 3 VCC (power) "Supply Voltage. Bypass VCC to GND with a 0.1µF capacitor.", 4 RXD (out) "Receive Data Output. RXD is a CMOS/TTL-compatible output.", 5 SHDN (in) "Shutdown Input, CMOS/TTL-Compatible. Drive SHDN high to put the MAX3051 in shutdown.  SHDN has an internal 75kO pulldown resistor to GND.", 6 CANL "CAN Bus Line Low", 7 CANH "CAN Bus Line High", 8 RS (in) "Mode-Select Input. Drive RS low or connect to GND for high-speed operation. Connect a resistor  between RS and GND to control output slope. Drive RS high to put into standby mode (see the  Mode Selection section)."
text: Thermal; Shutdown; Vcc; Transmitter; Control; Mode; Selection; -; Receiver; 0.75V; +

## MOLEX-52207-0433
designator P?
footprint Molex 52207-0433
pins: 1, 2, 3, 4, SHIELD

## MOLEX-52207-1133
designator P?
footprint Molex 52207-1133
pins: 1, 2, 3, 4, 5, 6, 7, 8, 9, 10, 11, SHIELD

## MP34DT05TR-A
designator MIC?  (value not drawn)
MEMS AUD MIC SENSOR OMNI 4HCLGA; Manufacturer: STMicroelectronics; Manufacturer Part Number: MP34DT05TR-A; Output Type: Digital, PDM; Direction: Omnidirectional; Sensitivity: -26dB ±3dB @ 94dB SPL; S/N Ratio: 64dB; Port Location: Top; Shape: Rectangular; Supplier 1: Digi-Key; RoHS: Request Inventory Verification; Category: Audio Products; Stock 1: 3088; Pricing 1: 1=1.41, 10=1.117, 100=0.8855, 500=0.7535, 1000=0.704 (USD); Packaging: Cut Tape (CT); Part Status: Active; Type: MEMS (Silicon); Ratings: -; Termination: Solder Pads; Height (Max): 0.043" (1.10mm); ComponentLink1URL: http://www.st.com/content/ccc/resource/technical/document/datasheet/group3/c7/90/d3/f6/b7/e7/40/c8/DM00415595/files/DM00415595.pdf/jcr:content/translations/en.DM00415595.pdf; ComponentLink1Description: http://www.st.com/content/ccc/resource/technical/document/datasheet/group3/c7/90/d3/f6/b7/e7/40/c8/DM00415595/files/DM00415595.pdf/jcr:content/translations/en.DM00415595.pdf; Supplier Part Number 1: 497-17809-1-ND
footprint MIC-PACK_MP34DT05-A(Primary)
pins: 1 VDD (power), 2 ~{L}/R (in), 3 CLK (in), 4 DOUT (out), 5 GND (power)

## MP45DT02-M
designator MIC?
MEMS Omnidirectional Digital Microphone; Value: MP45DT02-M
footprint HLGA-6L (LGA 6-Pins, Body 3.8x4.8mm (max), Pitch 1.65mm)
pins: 1 GND (power), 2 ~{L}/R (in), 3 GND (power), 4 CLK (in), 5 DOUT (out), 6 VDD (power)

## PMDXB550UNEZ
designator T?  (value not drawn)
DUAL N-CHANNEL 30V; Manufacturer: NXP Semiconductors; Manufacturer Part Number: PMDXB550UNEZ; Continuous Drain Current (ID): 590mA; Max Power Dissipation: 285mW; Rds On Max: 670mR; Input Capacitance: 30.3pF; FET Type: 2 N-Channel; Supplier 1: Digi-Key; Stock 1: 5582; Pricing 1: 1=0.48, 10=0.379, 100=0.2601, 500=0.17838, 1000=0.13379 (USD); Mount: Surface Mount; Min Operating Temperature: -55°C; Max Operating Temperature: 150°C; Drain to Source Voltage (Vdss): 30V; Packaging: Tape and Reel; Supplier Part Number 1: 1727-2277-1-ND
footprint DFN1010B-6
part A pins: 1 S, 2 G (in), 6 D
part B pins: 3 D, 4 S, 5 G (in)

## PMDXB1200UPEZ
designator T?  Manufacturer Part Number: PMDXB1200UPEZ  (hidden comment: *)
DUAL P-CHANNEL 30V; Manufacturer: NXP Semiconductors; Continuous Drain Current (ID): 410mA; Max Power Dissipation: 285mW; Rds On Max: 1.4R; Input Capacitance: 43.2pF; Supplier 1: Digikey; Stock 1: 13268; Pricing 1: 1=0.48, 10=0.379, 100=0.2601, 500=0.17838, 1000=0.13379 (USD); Mount: Surface Mount; Min Operating Temperature: -55°C; Max Operating Temperature: 150°C; Drain to Source Voltage (Vdss): 30V; Packaging: Tape and Reel
footprint DFN1010B-6
part A pins: 1 S, 2 G (in), 6 D
part B pins: 3 D, 4 S, 5 G (in)

## RB751S-40DP-TP
designator D?  (value not drawn)
Schottky Diodes & Rectifiers 203 Package Schottky Diodes; Manufacturer: MCC; Manufacturer Part Number: RB751S-40DP-TP; Reverse Voltage (DC): 28V; Average Rectified Current: 30mA; Element Configuration: Single; Forward Current: 200mA; Max Repetitive Reverse Voltage (Vrrm): 40V; Peak Reverse Current: 500nA; Max Power Dissipation: 100mW; Supplier 1: Digi-Key; Stock 1: 104704; Pricing 1: 1=0.3, 10=0.27, 100=0.1514, 500=0.08112, 1000=0.05516 (USD); Mount: Surface Mount; Case/Package: 0201; Case Code (Metric): 0603; Case Code (Imperial): 0201; Max Operating Temperature: 125°C; Packaging: Tape and Reel; Termination: SMD/SMT; Max Forward Surge Current (Ifsm): 200mA; Package Quantity: 10000; Max Reverse Voltage (DC): 40V; Length: 0.67mm; Height: 0.34mm; Width: 0.37mm; Supplier Part Number 1: RB751S-40DP-TPMSCT-ND
footprint 0201 diode (for 0201 mcsemi diode)
footprint 0201 diode - Wide (for 0201 mcsemi diode)
pins: 1 C, 2 C

## SIZ322DT-T1-GE3
designator T?  Manufacturer Part Number: SIZ322DT-T1-GE3  (hidden comment: *)
Manufacturer: Vishay Siliconix; Supplier 1: Digi-Key; Stock 1: 0; Pricing 1: 3000=0.37036 (USD); Supplier Part Number 1: SIZ322DT-T1-GE3TR-ND
footprint PowerPair 3x3
pins: 1 G1 (in), 2 D1, 3 D1, 4 D1, 5 S2, 6 S2, 7 S2, 8 G2 (in), 9 S1/D2, 10 D1
text: S1; D2

## STM32F74XZXY
designator U?, comment STM32FG746ZxY
Imported; Manufacturer_Part_Number: stm32f74xzxy; Vendor: STMicroelectronics; C: Copyright (C) 2016 Accelerated Designs. All rights reserved; Copyright: Copyright (C) 2016 Accelerated Designs. All rights reserved; RefDes: RefDes; Type: DEV; Value: Value
footprint WLCSP-143
part A pins: A2 PC10 (io), A3 PD2 (io), A4 PD5 (io), A5 PD7 (io), A8 PB6 (io), A9 PB8 (io), B1 PA14 (io), B2 PC11 (io), B3 PD0 (io), B4 PD3 (io), B5 PD4 (io), B7 PB3 (io), B8 PB7 (io), B9 PB9 (io), C2 PA15 (io), C3 PC12 (io), C4 PD1 (io), C7 PB4 (io), C8 PB5 (io), D3 PA13 (io), D4 PA11 (io), D5 PA10 (io), D10 PC13 (io), D11 PC14 (io), E1 PA12 (io), E2 PA9 (io), E3 PC9 (io), E4 PC8 (io), E11 PC15 (io), F1 PA8 (io), F2 PC6 (io), F3 PC7 (io), F4 PD6 (io), H4 PD10 (io), H5 PD13 (io), H6 PD12 (io), H8 PC0 (io), J2 PD14 (io), J3 PB15 (io), J9 PC3 (io), J10 PC2 (io), K1 PD15 (io), K2 PD11 (io), K3 PB14 (io), K7 PB1 (io), K8 PA1 (io), K9 PA0 (io), K11 PC1 (io), L2 PD8 (io), L7 PB2 (io), L8 PA7 (io), L9 PA2 (io), M1 PD9 (io), M2 PB12 (io), M3 PB10 (io), M8 PC4 (io), M9 PA5 (io), M10 PA4 (io), M11 PA3 (io), N1 PB13 (io), N3 PB11 (io), N8 PB0 (io), N9 PC5 (io), N10 PA6 (io)
part B pins: A6 PG12 (io), A7 PG15 (io), A10 PE1 (io), A11 PDR_ON, B6 PG11 (io), B10 PE0 (io), B11 PE4 (io), C6 PG10 (io), C9 BOOT0 (in), C10 PE3 (io), D6 PG13 (io), D8 PE2 (io), D9 PE5 (io), E5 PG9 (io), E8 PE6 (io), E9 PF1 (io), F6 PG14 (io), F7 PF7 (io), F8 PF5 (io), F9 PF4 (io), F10 PF2 (io), F11 PF0 (io), G2 PG8 (io), G3 PG3 (io), G4 PG6 (io), G5 PG4 (io), G6 PG5 (io), G8 PF9 (io), G9 PF10 (io), G10 PF6 (io), G11 PF3 (io), H1 PG7 (io), H9 NRST (io), H10 PH1 (io), H11 PF8 (io), J1 PG2 (io), J4 PE10 (io), J11 PH0 (io), K4 PE11 (io), K5 PG1 (io), K6 PF13 (io), L3 PE15 (io), L4 PE12 (io), L5 PE7 (io), L6 PF14 (io), M4 PE14 (io), M5 PE8 (io), M6 PF15 (io), M7 PF11 (io), N4 PE13 (io), N5 PE9 (io), N6 PG0 (io), N7 PF12 (io), N11 BYPASS_REG (in)
part C pins: A1 VDD (power), C1 VDD (power), C5 VDD (power), C11 VBAT (power), D1 VCAP_2 (power), D2 VSS (power), D7 VDD (power), E6 VDD (power), E7 VSS (power), E10 VDD (power), F5 VSS (power), G1 VDDUSB (power), G7 VDD (power), H2 VSS (power), H3 VSS (power), H7 VSS (power), J5 VDD (power), J6 VDD (power), J7 VDD (power), J8 VDD (power), K10 VSSA (power), L1 VDD (power), L10 VDDA (power), L11 VREF+ (power), N2 VCAP_1 (power)
part A text: 3.3 V tolerant I/O directly connected to ADC

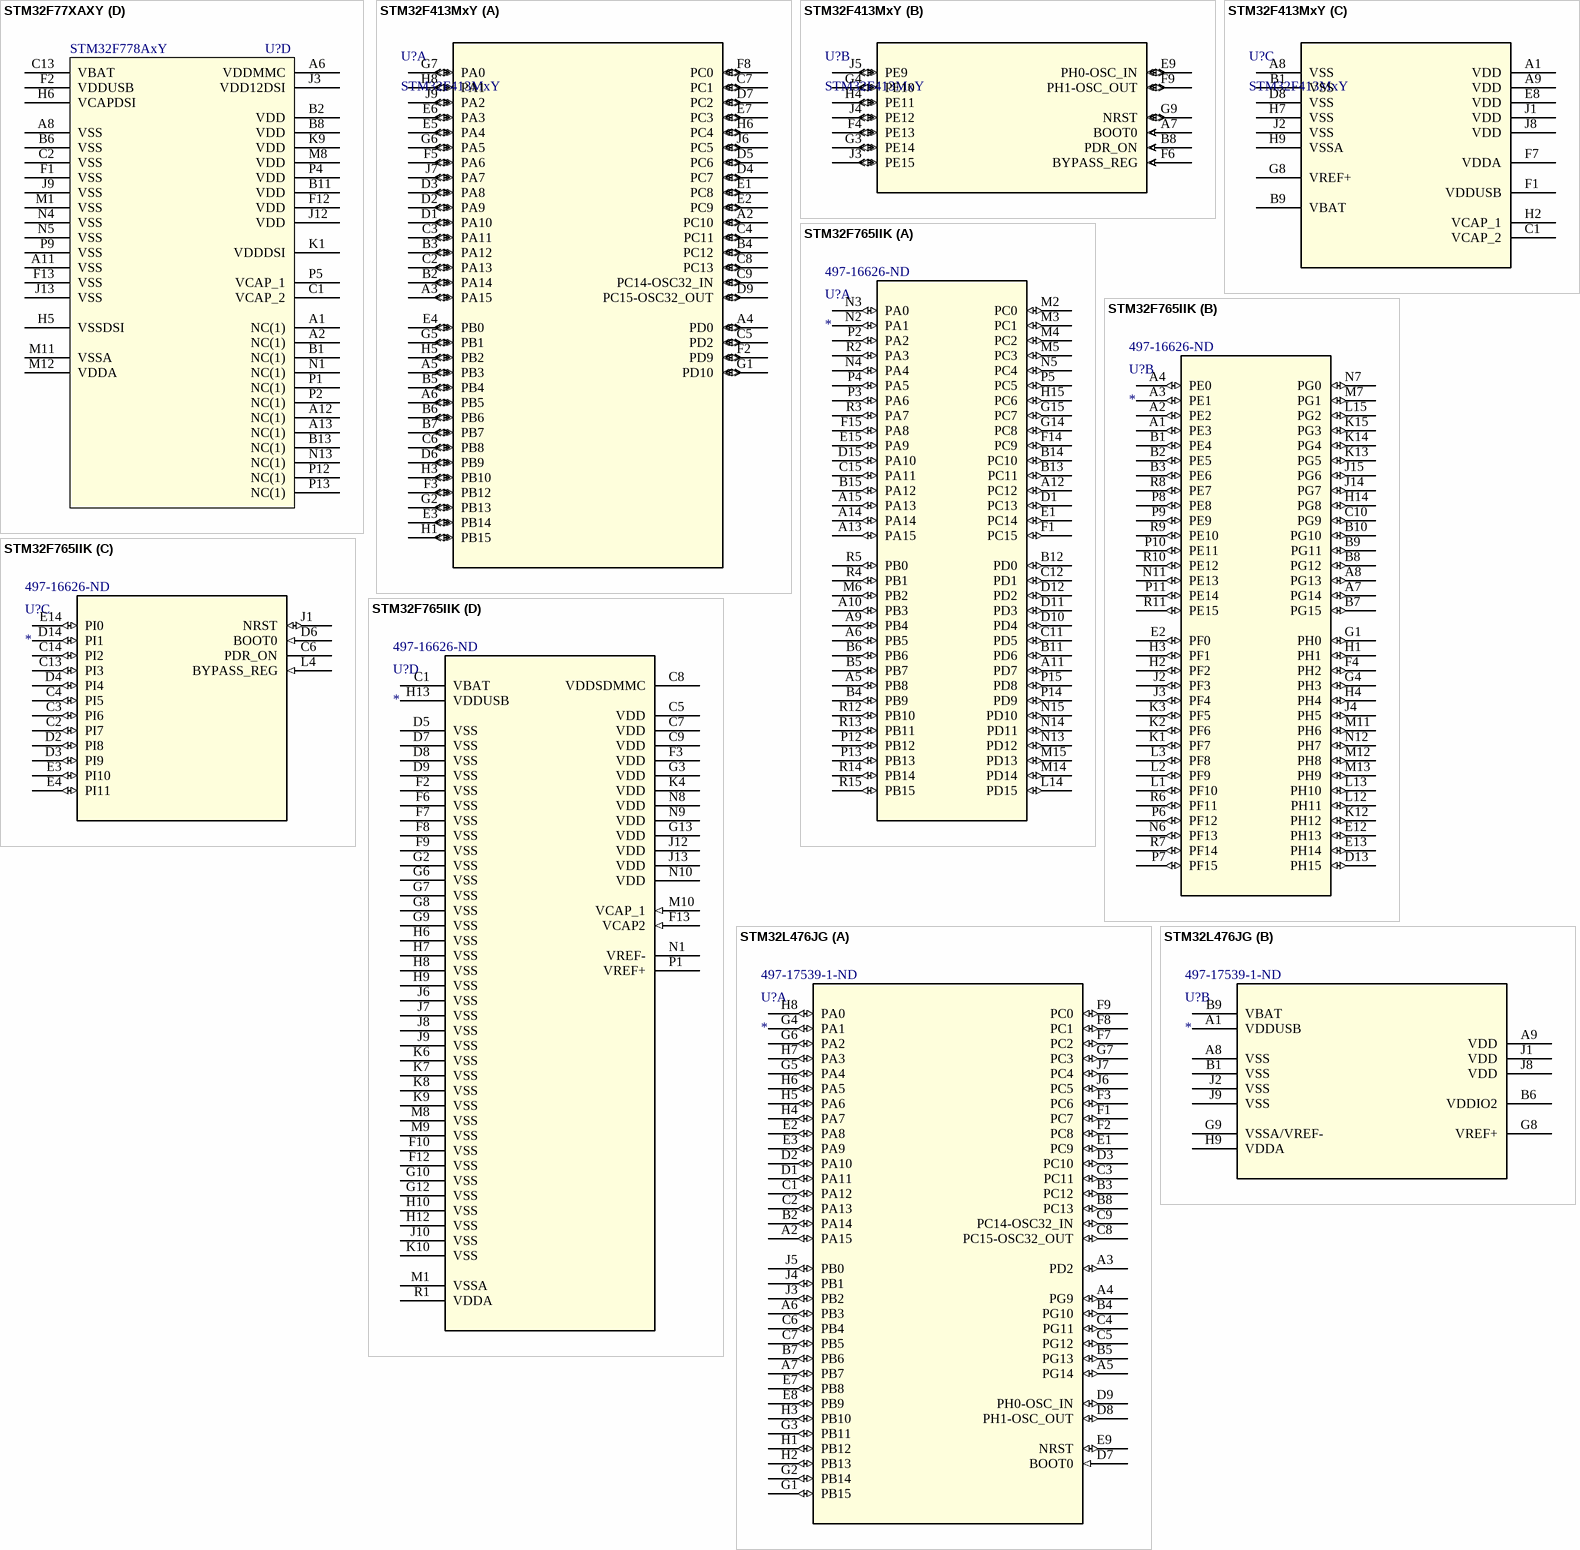
[diagram p2: symbols STM32F77XAXY to STM32L476JG]

## STM32F77XAXY
designator U?, comment STM32F778AxY
Imported; Manufacturer_Part_Number: stm32f77xaxy; Vendor: STMicroelectronics; C: Copyright (C) 2016 Accelerated Designs. All rights reserved; Copyright: Copyright (C) 2016 Accelerated Designs. All rights reserved; RefDes: RefDes; Type: DEV; Value: Value
footprint WLCSP-180
part A pins: A3 PA14(JTCK-SWCLK) (io), A4 PD0 (io), A5 PD4 (io), A9 PB5 (io), B4 PC10 (io), B5 PD3 (io), B9 PB6 (io), C4 PC11 (io), C5 PD5 (io), C8 PB7 (io), D1 PA12 (io), D2 PA13(JTMS-SWDIO) (io), D4 PC12 (io), D5 PD1 (io), D6 PD2 (io), D8 PB4(NJTRST) (io), D9 PB9 (io), D13 PC13 (io), E1 PC9 (io), E2 PA8 (io), E3 PA11 (io), E6 PD6 (io), E7 PD7 (io), E8 PB3(JTDO/TRACESWO) (io), E9 PB8 (io), E12 PC14-OSC32_IN (io), E13 PC15-OSC32_OUT (io), F3 PC7 (io), F4 PA9 (io), F5 PA10 (io), F8 PA15(JTDI) (io), G6 PC6 (io), G8 PC8 (io), H8 PB12 (io), J4 PD12 (io), J5 PB13 (io), J7 PB2 (io), J8 PB1 (io), J10 PA2 (io), J11 PA1 (io), K2 PD15 (io), K3 PD11 (io), K5 PB10 (io), L1 PD14 (io), L2 PD13 (io), L3 PD9 (io), L5 PB11 (io), L9 PA4 (io), L12 PC0 (io), L13 PC1 (io), M2 PD10 (io), M3 PD8 (io), M9 PA7 (io), M10 PA3 (io), M13 PA0-WKUP (io), N2 PB15 (io), N3 PB14 (io), N10 PA6 (io), P10 PB0 (io), P11 PA5 (io)
part B pins: A7 PG10 (io), B7 PG11 (io), B10 PE1 (io), C6 PG9 (io), C7 PG13 (io), C9 PE0 (io), C12 PE4 (io), D7 PG12 (io), D12 PE5 (io), E5 PH15 (io), E10 PE2 (io), E11 PE6 (io), F6 PH13 (io), F7 PH14 (io), F9 PG15 (io), F10 PE3 (io), G1 PG4 (io), G2 PG5 (io), G3 PG6 (io), G4 PG7 (io), G5 PG8 (io), G9 PG3 (io), G11 PF0 (io), G12 PF1 (io), G13 PF2 (io), H9 PG2 (io), H11 PF3 (io), H12 PF4 (io), H13 PF5 (io), J6 PE10 (io), K4 PH9 (io), K6 PE11 (io), K7 PF12 (io), K8 PF14 (io), K10 PH3 (io), K11 PF10 (io), K12 PH0-OSC_IN (io), K13 PH1-OSC_OUT (io), L4 PH10 (io), L6 PE12 (io), L7 PG1 (io), L8 PF13 (io), L10 PH2 (io), M4 PH11 (io), M5 PH8 (io), M6 PE15 (io), M7 PE7 (io), N6 PE14 (io), N7 PE8 (io), N8 PG0 (io), N9 PF11 (io), N11 PH5 (io), N12 PH4 (io), P3 PH12 (io), P6 PE13 (io), P7 PE9 (io), P8 PF15 (io)
part C pins: A10 BOOT0 (in), B3 PI1 (io), B12 PI7 (io), C3 PI2 (io), C10 PDR_ON, C11 PI6 (io), D3 PI3 (io), D10 PI4 (io), D11 PI5 (io), E4 PI0 (io), F11 PI11 (io), G10 PI9 (io), H1 DSI_D1P (io), H2 DSI_D1N (io), H3 DSI_CKN (io), H4 DSI_CKP (io), H10 PI10 (io), J1 DSI_D0P (io), J2 DSI_D0N (io), L11 NRST (io)
part D pins: A1 NC(1), A2 NC(1), A6 VDDMMC (power), A8 VSS (power), A11 VSS (power), A12 NC(1), A13 NC(1), B1 NC(1), B2 VDD (power), B6 VSS (power), B8 VDD (power), B11 VDD (power), B13 NC(1), C1 VCAP_2 (power), C2 VSS (power), C13 VBAT (power), F1 VSS (power), F2 VDDUSB (power), F12 VDD (power), F13 VSS (power), H5 VSSDSI (power), H6 VCAPDSI (power), J3 VDD12DSI (power), J9 VSS (power), J12 VDD (power), J13 VSS (power), K1 VDDDSI (power), K9 VDD (power), M1 VSS (power), M8 VDD (power), M11 VSSA (power), M12 VDDA (power), N1 NC(1), N4 VSS (power), N5 VSS (power), N13 NC(1), P1 NC(1), P2 NC(1), P4 VDD (power), P5 VCAP_1 (power), P9 VSS (power), P12 NC(1), P13 NC(1)
part A text: 3.3 V tolerant I/O directly connected to ADC

## STM32F413MxY
designator U?
ARM Cortex-M4 32-bit MCU+FPU, 1 or 1.5 MB Flash, 320 KB Internal RAM, 60 I/Os, 81-Pin WLCSP, -40 to 85 degC; Vendor: STMicroelectronics; C: Copyright (C) 2016 Accelerated Designs. All rights reserved; Manufacturer_Part_Number: stm32f413mxy; Copyright: Copyright (C) 2016 Accelerated Designs. All rights reserved; RefDes: RefDes; Type: DEV; Value: Value
footprint WLCSP81
footprint WLCSP81-ULB
footprint WLCSP81_ADV (BGA, 81-Balls, Body 4.07x3.99mm, Pitch 0.4mm)
part A pins: A2 PC10 (io), A3 PA15 (io), A4 PD0 (io), A5 PB3 (io), A6 PB5 (io), B2 PA14 (io), B3 PA12 (io), B4 PC12 (io), B5 PB4 (io), B6 PB6 (io), B7 PB7 (io), C2 PA13 (io), C3 PA11 (io), C4 PC11 (io), C5 PD2 (io), C6 PB8 (io), C7 PC1 (io), C8 PC13 (io), C9 PC14-OSC32_IN (io), D1 PA10 (io), D2 PA9 (io), D3 PA8 (io), D4 PC7 (io), D5 PC6 (io), D6 PB9 (io), D7 PC2 (io), D9 PC15-OSC32_OUT (io), E1 PC8 (io), E2 PC9 (io), E3 PB14 (io), E4 PB0 (io), E5 PA4 (io), E6 PA3 (io), E7 PC3 (io), F2 PD9 (io), F3 PB12 (io), F5 PA6 (io), F8 PC0 (io), G1 PD10 (io), G2 PB13 (io), G5 PB1 (io), G6 PA5 (io), G7 PA0 (io), H1 PB15 (io), H3 PB10 (io), H5 PB2 (io), H6 PC4 (io), H8 PA1 (io), J6 PC5 (io), J7 PA7 (io), J9 PA2 (io)
part B pins: A7 BOOT0 (in), B8 PDR_ON (in), E9 PH0-OSC_IN (io), F4 PE13 (io), F6 BYPASS_REG (in), F9 PH1-OSC_OUT (io), G3 PE14 (io), G4 PE10 (io), G9 NRST (io), H4 PE11 (io), J3 PE15 (io), J4 PE12 (io), J5 PE9 (io)
part C pins: A1 VDD (power), A8 VSS (power), A9 VDD (power), B1 VSS (power), B9 VBAT (power), C1 VCAP_2 (power), D8 VSS (power), E8 VDD (power), F1 VDDUSB (power), F7 VDDA (power), G8 VREF+ (power), H2 VCAP_1 (power), H7 VSS (power), H9 VSSA (power), J1 VDD (power), J2 VSS (power), J8 VDD (power)

## STM32F765IIK
designator U?  Supplier Part Number 1: 497-16626-ND
IC MCU 32BIT 2MB FLASH 176UFBGA; Manufacturer_Part_Number: stm32f76xixk; Manufacturer Part Number: STM32F765IIK6; Vendor: STMicroelectronics; C: Copyright (C) 2016 Accelerated Designs. All rights reserved; Core Processor: ARM® Cortex®-M7; Core Size: 32-Bit; Speed: 216MHz; Connectivity: CANbus, EBI/EMI, Ethernet, I²C, IrDA, LINbus, MMC/SD/SDIO, QSPI, SAI, SPDIF, SPI, UART/USART, USB OTG; Peripherals: Brown-out Detect/Reset, DMA, I²S, POR, PWM, WDT; Program Memory Size: 2MB (2M x 8); RAM Size: 512K x 8; Voltage - Supply (Vcc/Vdd): 1.7 V ~ 3.6 V; Data Converters: A/D 24x12b, A/D 2x12b; Oscillator Type: Internal; Copyright: Copyright (C) 2016 Accelerated Designs. All rights reserved; RefDes: RefDes; Type: DEV; Value: Value; Supplier 1: Digi-Key; Manufacturer: STMicroelectronics; RoHS: RoHS Compliant; Category: Integrated Circuits (ICs); Stock 1: 1499; Pricing 1: 1=16.21, 10=14.9, 100=12.5836, 500=11.194 (USD); Packaging: Tray; Part Status: Active; Program Memory Type: FLASH; EEPROM Size: -; Operating Temperature: -40°C ~ 85°C (TA); Package / Case: 201-UFBGA; Supplier Device Package: 176+25UFBGA (10x10); ComponentLink1URL: http://www.st.com/content/ccc/resource/technical/document/datasheet/group3/c5/37/9c/1d/a6/09/4e/1a/DM00273119/files/DM00273119.pdf/jcr:content/translations/en.DM00273119.pdf; ComponentLink1Description: http://www.st.com/content/ccc/resource/technical/document/datasheet/group3/c5/37/9c/1d/a6/09/4e/1a/DM00273119/files/DM00273119.pdf/jcr:content/translations/en.DM00273119.pdf
footprint UFBGA-176
part A pins: A5 PB8 (io), A6 PB5 (io), A9 PB4 (io), A10 PB3 (io), A11 PD7 (io), A12 PC12 (io), A13 PA15 (io), A14 PA14 (io), A15 PA13 (io), B4 PB9 (io), B5 PB7 (io), B6 PB6 (io), B11 PD6 (io), B12 PD0 (io), B13 PC11 (io), B14 PC10 (io), B15 PA12 (io), C11 PD5 (io), C12 PD1 (io), C15 PA11 (io), D1 PC13 (io), D10 PD4 (io), D11 PD3 (io), D12 PD2 (io), D15 PA10 (io), E1 PC14 (io), E15 PA9 (io), F1 PC15 (io), F14 PC9 (io), F15 PA8 (io), G14 PC8 (io), G15 PC7 (io), H15 PC6 (io), L14 PD15 (io), M2 PC0 (io), M3 PC1 (io), M4 PC2 (io), M5 PC3 (io), M6 PB2 (io), M14 PD14 (io), M15 PD13 (io), N2 PA1 (io), N3 PA0 (io), N4 PA4 (io), N5 PC4 (io), N13 PD12 (io), N14 PD11 (io), N15 PD10 (io), P2 PA2 (io), P3 PA6 (io), P4 PA5 (io), P5 PC5 (io), P12 PB12 (io), P13 PB13 (io), P14 PD9 (io), P15 PD8 (io), R2 PA3 (io), R3 PA7 (io), R4 PB1 (io), R5 PB0 (io), R12 PB10 (io), R13 PB11 (io), R14 PB14 (io), R15 PB15 (io)
part B pins: A1 PE3 (io), A2 PE2 (io), A3 PE1 (io), A4 PE0 (io), A7 PG14 (io), A8 PG13 (io), B1 PE4 (io), B2 PE5 (io), B3 PE6 (io), B7 PG15 (io), B8 PG12 (io), B9 PG11 (io), B10 PG10 (io), C10 PG9 (io), D13 PH15 (io), E2 PF0 (io), E12 PH13 (io), E13 PH14 (io), F4 PH2 (io), G1 PH0 (io), G4 PH3 (io), H1 PH1 (io), H2 PF2 (io), H3 PF1 (io), H4 PH4 (io), H14 PG8 (io), J2 PF3 (io), J3 PF4 (io), J4 PH5 (io), J14 PG7 (io), J15 PG6 (io), K1 PF7 (io), K2 PF6 (io), K3 PF5 (io), K12 PH12 (io), K13 PG5 (io), K14 PG4 (io), K15 PG3 (io), L1 PF10 (io), L2 PF9 (io), L3 PF8 (io), L12 PH11 (io), L13 PH10 (io), L15 PG2 (io), M7 PG1 (io), M11 PH6 (io), M12 PH8 (io), M13 PH9 (io), N6 PF13 (io), N7 PG0 (io), N11 PE13 (io), N12 PH7 (io), P6 PF12 (io), P7 PF15 (io), P8 PE8 (io), P9 PE9 (io), P10 PE11 (io), P11 PE14 (io), R6 PF11 (io), R7 PF14 (io), R8 PE7 (io), R9 PE10 (io), R10 PE12 (io), R11 PE15 (io)
part C pins: C2 PI7 (io), C3 PI6 (io), C4 PI5 (io), C6 PDR_ON, C13 PI3 (io), C14 PI2 (io), D2 PI8 (io), D3 PI9 (io), D4 PI4 (io), D6 BOOT0 (in), D14 PI1 (io), E3 PI10 (io), E4 PI11 (io), E14 PI0 (io), J1 NRST (io), L4 BYPASS_REG (in)
part D pins: C1 VBAT (power), C5 VDD (power), C7 VDD (power), C8 VDDSDMMC (power), C9 VDD (power), D5 VSS (power), D7 VSS (power), D8 VSS (power), D9 VSS (power), F2 VSS (power), F3 VDD (power), F6 VSS (power), F7 VSS (power), F8 VSS (power), F9 VSS (power), F10 VSS (power), F12 VSS (power), F13 VCAP2 (in), G2 VSS (power), G3 VDD (power), G6 VSS (power), G7 VSS (power), G8 VSS (power), G9 VSS (power), G10 VSS (power), G12 VSS (power), G13 VDD (power), H6 VSS (power), H7 VSS (power), H8 VSS (power), H9 VSS (power), H10 VSS (power), H12 VSS (power), H13 VDDUSB (power), J6 VSS (power), J7 VSS (power), J8 VSS (power), J9 VSS (power), J10 VSS (power), J12 VDD (power), J13 VDD (power), K4 VDD (power), K6 VSS (power), K7 VSS (power), K8 VSS (power), K9 VSS (power), K10 VSS (power), M1 VSSA (power), M8 VSS (power), M9 VSS (power), M10 VCAP_1 (in), N1 VREF- (power), N8 VDD (power), N9 VDD (power), N10 VDD (power), P1 VREF+ (power), R1 VDDA (power)